# EAGLE library part EEPROM-M24M01 (library tidyeagle)
1MBit I2C EEPROM Datasheet: Full <http://www.st.com/stonline/products/literature/ds/12943/m24m01-r.pdf> Application Notes: Set E1 and E2 high or low to determine the I2C address of this component. WC (Write Control) should be pulled low in order to enable writing to this EEPROM - if WC is high it will place the chip in read-only mode. If left floating WC will default to a 'low' state. 10KΩ pullup resistors may be needed on the I2C bus.
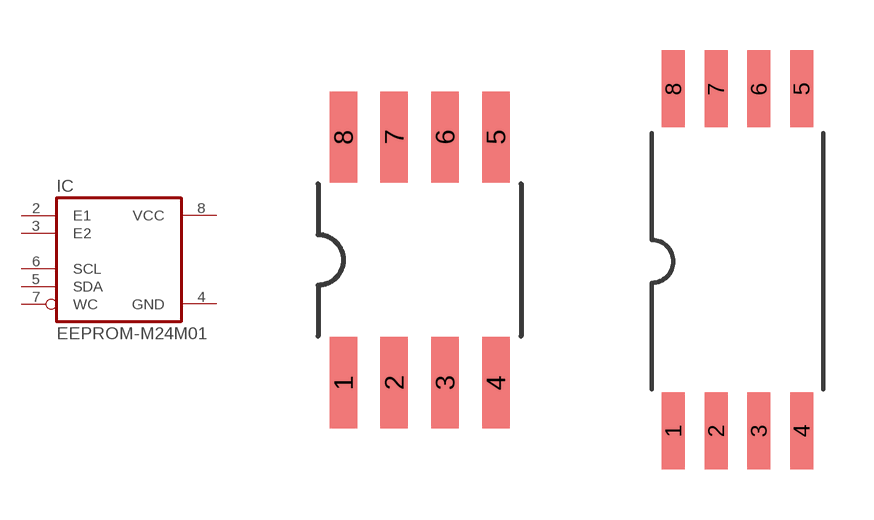
[diagram p14: symbol with the pads of SO8; footprints SO8, SO8L]

Designator prefix IC

## EEPROM-M24M01-SO8-MN  [SO8]
2  E1  out
3  E2  in
4  GND  pwr
5  SDA  out
6  SCL
7  WC  out
8  VCC  pwr

## EEPROM-M24M01-SO8L-MW  [SO8L]
Pads as for SO8

## Footprint SO8 (pad centres in mm)
Not Tested.
smd 0.686 x 2.286: 1 -1.778,-3.073; 2 -0.508,-3.073; 3 0.762,-3.073; 4 2.032,-3.073; 5 2.032,3.073; 6 0.762,3.073; 7 -0.508,3.073; 8 -1.778,3.073

## Footprint SO8L (pad centres in mm)
Not Tested
smd 0.686 x 2.286: 1 -1.905,-5.029; 2 -0.635,-5.029; 3 0.635,-5.029; 4 1.905,-5.029; 5 1.905,5.131; 6 0.635,5.131; 7 -0.635,5.131; 8 -1.905,5.131